# Altium footprint library oystesm.PcbLib: 2 footprints
Each footprint in its own frame and in the unit in brackets; x right, y up, seen from the top. Pads: shape width x height; smd on the part's side, far side on the other; paste and mask are expansions set on the pad; w line width, h text height; cw(c..) or ccw(c..) is an arc to the next point about the centre after c.
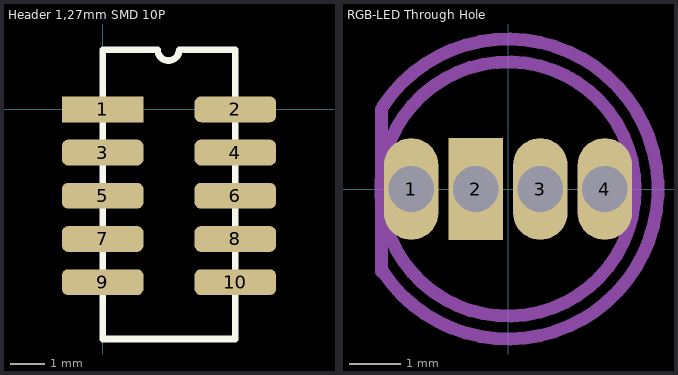
[diagram p0: the footprints below, top view; thin cyan lines are the x and y axes]

## Header 1,27mm SMD 10P [mm]
pads (10):
  rect 2.4x0.76 smd: 1(0,0)
  rrect50% 2.4x0.76 smd: 2(3.9,0) 3(0,-1.27) 4(3.9,-1.27) 5(0,-2.54) 6(3.9,-2.54) 7(0,-3.81) 8(3.9,-3.81) 9(0,-5.08) 10(3.9,-5.08)
Top Overlay:
  lines w0.2: 1.6,1.75 0,1.75 0,-6.75 3.9,-6.75 3.9,1.75 2.25,1.75 cw(c1.933,1.75) 1.615,1.75

## RGB-LED Through Hole [mm]
height 6
pads (4):
  oval 1.07x2 hole 0.9: 1(-1.905,0) 3(0.635,0) 4(1.905,0)
  rect 1.07x2 hole 0.9: 2(-0.635,0)
Mechanical 1:
  circle w0.254: c0,0 r2.5
  lines w0.254: -2.488,-1.625 -2.488,1.568 ; -2.462,-1.625 ccw(c0,0) -2.462,1.625
3D body: height 8.7, standoff 3.7, extent -2.474,-2.489 2.5,2.49
3D body: height 1.2, standoff 0.2, extent -2.927,-2.944 2.95,2.944
3D body: height 6.2, standoff 1.2, extent -2.48,-2.495 2.5,2.495
3D body: height 6, standoff 0, extent -2.557,-1.102 2.557,1.102